# Altium footprint library TRANS.PcbLib: 1 footprints
Each footprint in its own frame and in the unit in brackets; x right, y up, seen from the top. Pads: shape width x height; smd on the part's side, far side on the other; paste and mask are expansions set on the pad; w line width, h text height; cw(c..) or ccw(c..) is an arc to the next point about the centre after c.
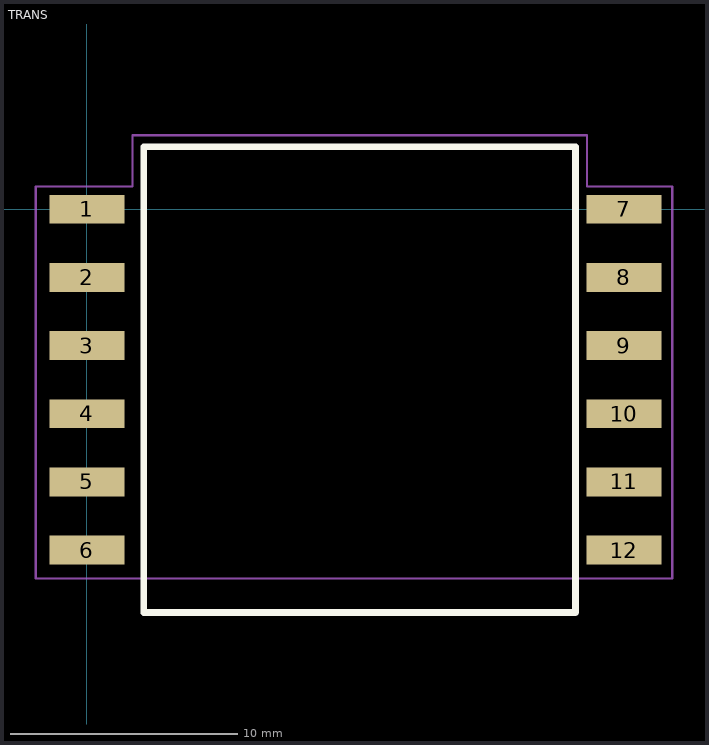
[diagram p0: the footprint, top view; thin cyan lines are the x and y axes]

## TRANS [mm]
pads (12):
  rect 3.3x1.27 smd: 1(0,0) 2(0,-3) 3(0,-6) 4(0,-9) 5(0,-12) 6(0,-15) 7(23.62,0) 8(23.62,-3) 9(23.62,-6) 10(23.62,-9) 11(23.62,-12) 12(23.62,-15)
Top Overlay:
  lines w0.3: 2.5,-17.75 2.5,2.75 21.5,2.75 21.5,-17.75 2.5,-17.75
Top Courtyard:
  lines w0.1: -2.25,-1 -2.25,1 2,1 2,3.25 22,3.25 22,1 25.75,1 25.75,-16.25 22,-16.25 2,-16.25 -2.25,-16.25 -2.25,0.75